# EAGLE library part 23LC1024 (library kvitekp)
Serial SRAM 1Mbit, SPI bus, Microchip
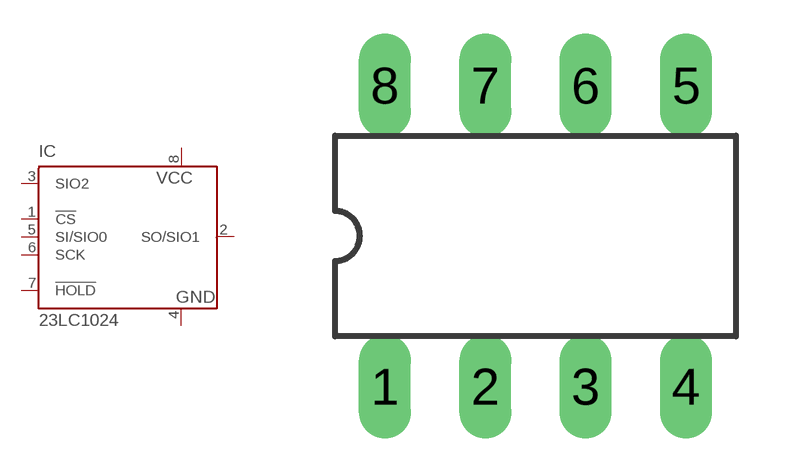
[diagram p7: symbol with the pads of DIL8; footprint DIL8]

Designator prefix IC

## 23LC1024P  [DIL8]
1  !CS  in
2  SO/SIO1
3  SIO2  in
4  GND  pwr
5  SI/SIO0  in
6  SCK  in
7  !HOLD  in
8  VCC  pwr

## Footprint DIL8 (pad centres in mm)
Dual In Line package type P
drill 0.813 long: 1 -3.81,-3.81; 2 -1.27,-3.81; 3 1.27,-3.81; 4 3.81,-3.81; 5 3.81,3.81; 6 1.27,3.81; 7 -1.27,3.81; 8 -3.81,3.81